# Altium schematic symbol library SCH - MCU - INFINEON XMC - INFINEON XMC1100T038.SchLib: 1 symbol
Pins are listed as number, name and electrical type; pins without a type are passive.

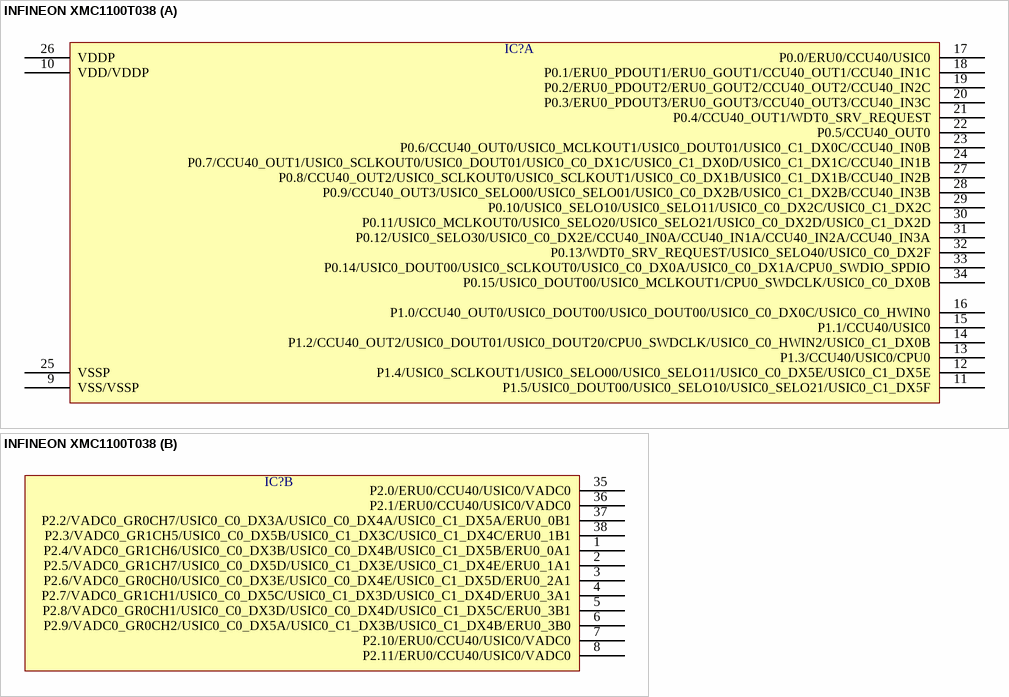
[diagram p0: symbol INFINEON XMC1100T038]

## INFINEON XMC1100T038
designator IC?  (value not drawn)
part A pins: 9 VSS/VSSP, 10 VDD/VDDP, 11 P1.5/USIC0_DOUT00/USIC0_SELO10/USIC0_SELO21/USIC0_C1_DX5F, 12 P1.4/USIC0_SCLKOUT1/USIC0_SELO00/USIC0_SELO11/USIC0_C0_DX5E/USIC0_C1_DX5E, 13 P1.3/CCU40/USIC0/CPU0, 14 P1.2/CCU40_OUT2/USIC0_DOUT01/USIC0_DOUT20/CPU0_SWDCLK/USIC0_C0_HWIN2/USIC0_C1_DX0B, 15 P1.1/CCU40/USIC0, 16 P1.0/CCU40_OUT0/USIC0_DOUT00/USIC0_DOUT00/USIC0_C0_DX0C/USIC0_C0_HWIN0, 17 P0.0/ERU0/CCU40/USIC0, 18 P0.1/ERU0_PDOUT1/ERU0_GOUT1/CCU40_OUT1/CCU40_IN1C, 19 P0.2/ERU0_PDOUT2/ERU0_GOUT2/CCU40_OUT2/CCU40_IN2C, 20 P0.3/ERU0_PDOUT3/ERU0_GOUT3/CCU40_OUT3/CCU40_IN3C, 21 P0.4/CCU40_OUT1/WDT0_SRV_REQUEST, 22 P0.5/CCU40_OUT0, 23 P0.6/CCU40_OUT0/USIC0_MCLKOUT1/USIC0_DOUT01/USIC0_C1_DX0C/CCU40_IN0B, 24 P0.7/CCU40_OUT1/USIC0_SCLKOUT0/USIC0_DOUT01/USIC0_C0_DX1C/USIC0_C1_DX0D/USIC0_C1_DX1C/CCU40_IN1B, 25 VSSP, 26 VDDP, 27 P0.8/CCU40_OUT2/USIC0_SCLKOUT0/USIC0_SCLKOUT1/USIC0_C0_DX1B/USIC0_C1_DX1B/CCU40_IN2B, 28 P0.9/CCU40_OUT3/USIC0_SELO00/USIC0_SELO01/USIC0_C0_DX2B/USIC0_C1_DX2B/CCU40_IN3B, 29 P0.10/USIC0_SELO10/USIC0_SELO11/USIC0_C0_DX2C/USIC0_C1_DX2C, 30 P0.11/USIC0_MCLKOUT0/USIC0_SELO20/USIC0_SELO21/USIC0_C0_DX2D/USIC0_C1_DX2D, 31 P0.12/USIC0_SELO30/USIC0_C0_DX2E/CCU40_IN0A/CCU40_IN1A/CCU40_IN2A/CCU40_IN3A, 32 P0.13/WDT0_SRV_REQUEST/USIC0_SELO40/USIC0_C0_DX2F, 33 P0.14/USIC0_DOUT00/USIC0_SCLKOUT0/USIC0_C0_DX0A/USIC0_C0_DX1A/CPU0_SWDIO_SPDIO, 34 P0.15/USIC0_DOUT00/USIC0_MCLKOUT1/CPU0_SWDCLK/USIC0_C0_DX0B
part B pins: 1 P2.4/VADC0_GR1CH6/USIC0_C0_DX3B/USIC0_C0_DX4B/USIC0_C1_DX5B/ERU0_0A1, 2 P2.5/VADC0_GR1CH7/USIC0_C0_DX5D/USIC0_C1_DX3E/USIC0_C1_DX4E/ERU0_1A1, 3 P2.6/VADC0_GR0CH0/USIC0_C0_DX3E/USIC0_C0_DX4E/USIC0_C1_DX5D/ERU0_2A1, 4 P2.7/VADC0_GR1CH1/USIC0_C0_DX5C/USIC0_C1_DX3D/USIC0_C1_DX4D/ERU0_3A1, 5 P2.8/VADC0_GR0CH1/USIC0_C0_DX3D/USIC0_C0_DX4D/USIC0_C1_DX5C/ERU0_3B1, 6 P2.9/VADC0_GR0CH2/USIC0_C0_DX5A/USIC0_C1_DX3B/USIC0_C1_DX4B/ERU0_3B0, 7 P2.10/ERU0/CCU40/USIC0/VADC0, 8 P2.11/ERU0/CCU40/USIC0/VADC0, 35 P2.0/ERU0/CCU40/USIC0/VADC0, 36 P2.1/ERU0/CCU40/USIC0/VADC0, 37 P2.2/VADC0_GR0CH7/USIC0_C0_DX3A/USIC0_C0_DX4A/USIC0_C1_DX5A/ERU0_0B1, 38 P2.3/VADC0_GR1CH5/USIC0_C0_DX5B/USIC0_C1_DX3C/USIC0_C1_DX4C/ERU0_1B1